# EAGLE library part OSTVN06A150 (library 000_ICS_2021)
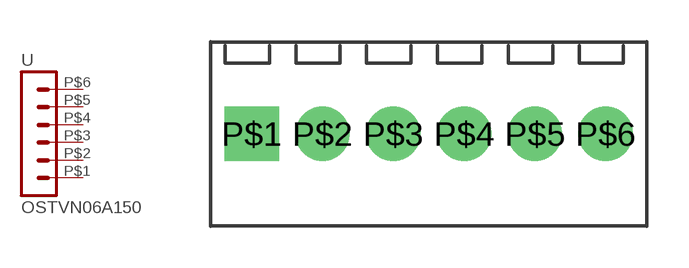
[diagram p17: symbol with the pads of OSTVN06A150; footprint OSTVN06A150]

Designator prefix -

## OSTVN06A150  [OSTVN06A150]
P$1  1  pas
P$2  2  pas
P$3  3  pas
P$4  4  pas
P$5  5  pas
P$6  6  pas

## Footprint OSTVN06A150 (pad centres in mm)
drill 1.3 square: P$1 -6.35,0
drill 1.3: P$2 -3.81,0; P$3 -1.27,0; P$4 1.27,0; P$5 3.81,0; P$6 6.35,0